# Altium schematic symbol library ESP-12S.SchLib: 1 symbol
Pins are listed as number, name and electrical type; pins without a type are passive.

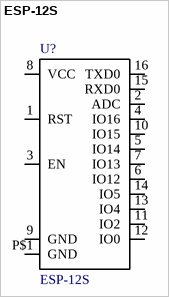
[diagram p0: symbol ESP-12S]

## ESP-12S
designator U?
/ WiFi 802.11b/g/n Transceiver Module 2.412GHz ~ 2.484GHz PCB Trace Surface Mount /; MF: RF Solutions; Package: Module RF Solutions; Price: None; Availability: Unavailable; MP: ESP-12S; SnapEDA_Link: https://www.snapeda.com/parts/ESP-12S/RF%20Solutions/view-part/3210766/?ref=snap; Value: *
footprint *ESP-12S_ESP-12S(Primary)
pins: 1 RST (io), 2 ADC (io), 3 EN (io), 4 IO16 (io), 5 IO14 (io), 6 IO12 (io), 7 IO13 (io), 8 VCC (io), 9 GND (io), 10 IO15 (io), 11 IO2 (io), 12 IO0 (io), 13 IO4 (io), 14 IO5 (io), 15 RXD0 (io), 16 TXD0 (io), P$1 GND (io)